# Altium footprint library 智能车主板.PcbLib: 35 footprints (part 2 of 3)
Each footprint in its own frame and in the unit in brackets; x right, y up, seen from the top. Pads: shape width x height; smd on the part's side, far side on the other; paste and mask are expansions set on the pad; w line width, h text height; cw(c..) or ccw(c..) is an arc to the next point about the centre after c.
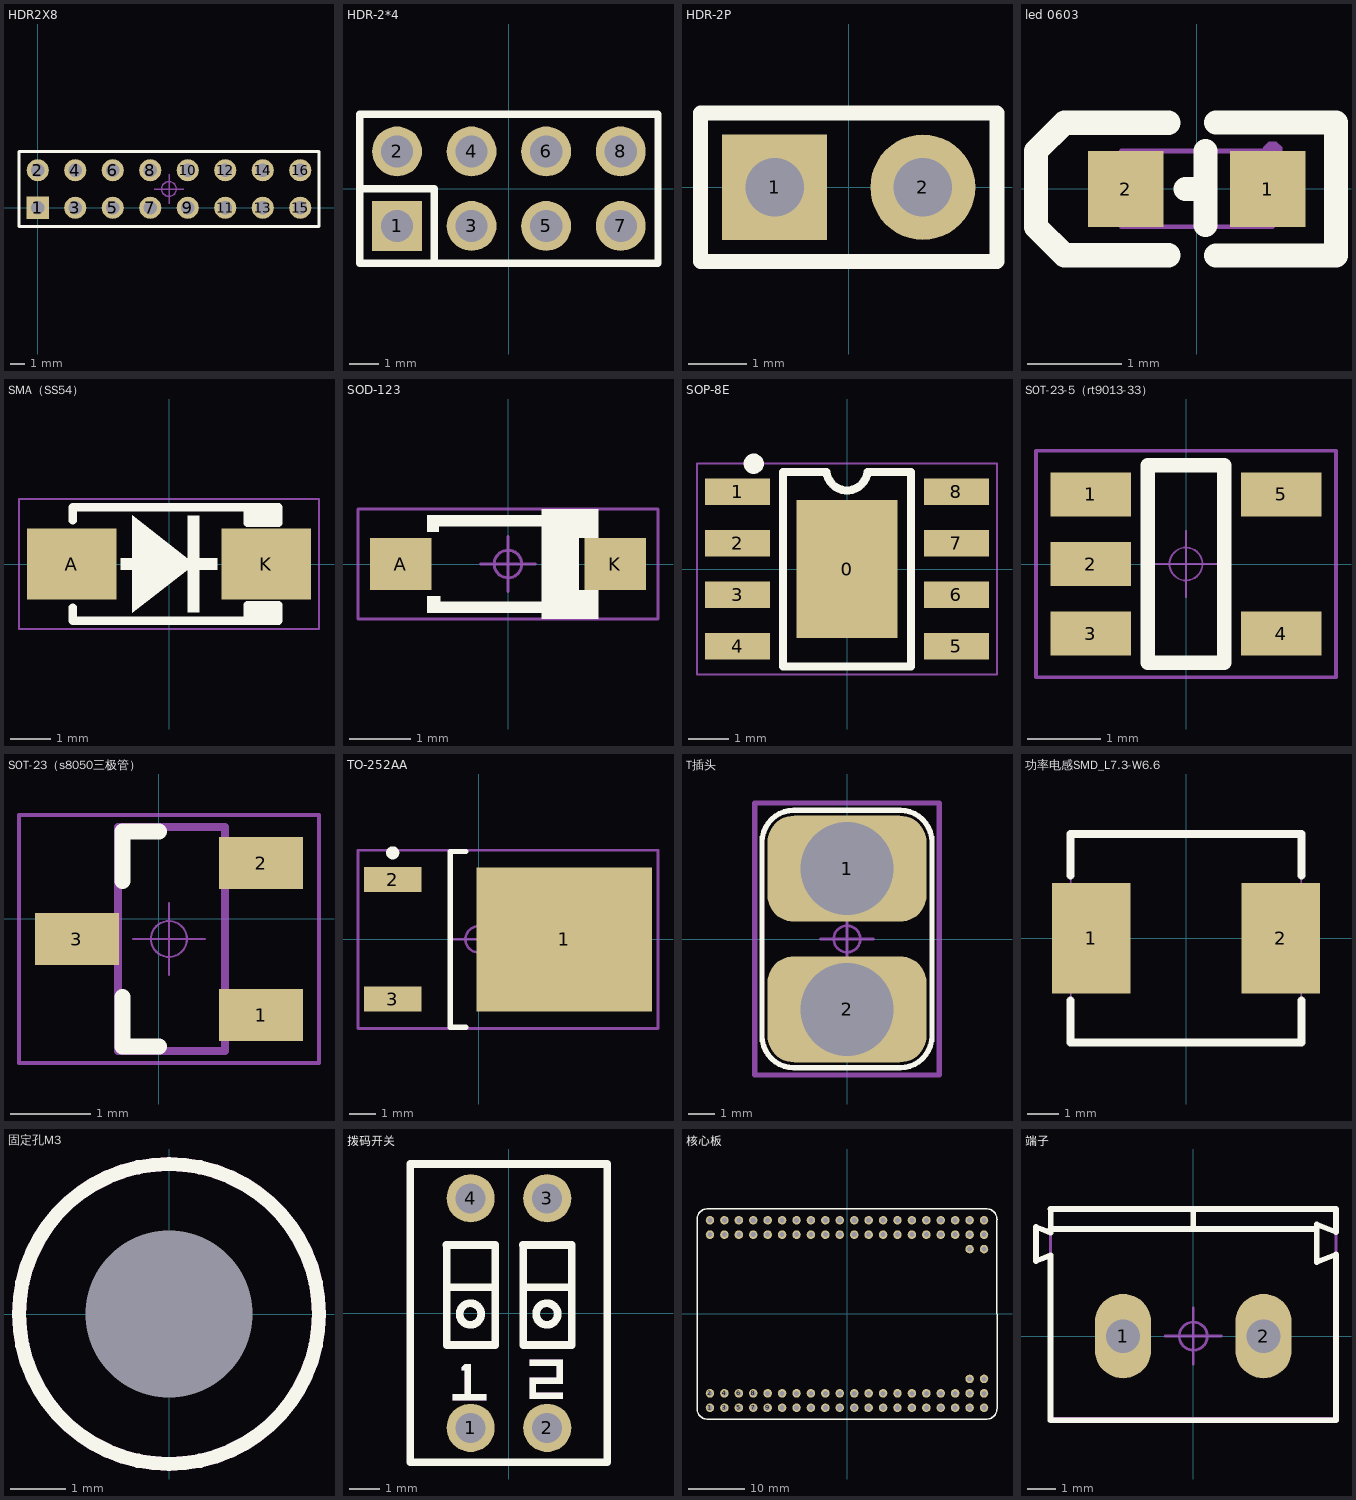
[diagram p1: the footprints below, top view; thin cyan lines are the x and y axes]

## HDR2X8 [mm]
pads (16):
  rect 1.5x1.5 hole 0.9: 1(0,0)
  round 1.5 hole 0.9: 2(0,2.54) 3(2.54,0) 4(2.54,2.54) 5(5.08,0) 6(5.08,2.54) 7(7.62,0) 8(7.62,2.54) 9(10.16,0) 10(10.16,2.54) 11(12.7,0) 12(12.7,2.54) 13(15.24,0) 14(15.24,2.54) 15(17.78,0) 16(17.78,2.54)
Top Overlay:
  lines w0.2: -1.27,-1.27 19.05,-1.27 19.05,3.81 -1.27,3.81 -1.27,-1.27
Top Component Outline:
  lines w0.1: -1.27,-1.27 -1.27,3.81 19.05,3.81 19.05,-1.27 -1.27,-1.27
Top Designator:
  text ".Designator" at 6.638,1.044 h1
Top Component Center:
  circle w0.1: c8.89,1.27 r0.5
  lines w0.1: 7.89,1.27 9.89,1.27 ; 8.89,0.27 8.89,2.27
3D body "2x8加高直插排座.step": height 16.2, standoff -3.3, extent -1.52,-1.27 19.3,3.81

## HDR-2*4 [mm]
pads (8):
  rect 1.7x1.7 hole 1.1 mask+0.051: 1(-3.81,-1.27)
  round 1.7 hole 1.1 mask+0.051: 2(-3.81,1.27) 3(-1.27,-1.27) 4(-1.27,1.27) 5(1.27,-1.27) 6(1.27,1.27) 7(3.81,-1.27) 8(3.81,1.27)
Top Overlay:
  lines w0.254: -5.08,0 -2.54,0 -2.54,-2.54 ; 5.07,2.54 -5.08,2.54 -5.08,-2.54 5.08,-2.54 5.08,2.54
Mechanical 15:
  region: -4.13,-0.95 -3.49,-0.95 -3.49,-1.59 -4.13,-1.59
  region: -4.13,1.59 -3.49,1.59 -3.49,0.95 -4.13,0.95
  region: -1.59,-0.95 -0.95,-0.95 -0.95,-1.59 -1.59,-1.59
  region: -1.59,1.59 -0.95,1.59 -0.95,0.95 -1.59,0.95
  region: 0.95,-0.95 1.59,-0.95 1.59,-1.59 0.95,-1.59
  region: 0.95,1.59 1.59,1.59 1.59,0.95 0.95,0.95
  region: 3.49,-0.95 4.13,-0.95 4.13,-1.59 3.49,-1.59
  region: 3.49,1.59 4.13,1.59 4.13,0.95 3.49,0.95
  region: -5.02,-2.5 -5.02,-2.475 -5.055,-2.44 -5.105,-2.44 -5.14,-2.475 -5.14,-2.5 -5.14,-2.525 -5.105,-2.56 -5.055,-2.56 -5.02,-2.525 -5.02,-2.5
  lines w0.051: -5.08,-2.5 5.08,-2.5 5.08,2.5 -5.08,2.5 -5.08,-2.5

## HDR-2P [mm]
pads (2):
  rect 1.8x1.8 hole 1 paste+0 mask+0.051: 1(-1.27,0)
  round 1.8 hole 1 paste+0 mask+0.051: 2(1.27,0)
Top Overlay:
  lines w0.254: -2.54,-1.27 -2.54,1.27 2.54,1.27 2.54,-1.27 -2.54,-1.27
Mechanical 15:
  region: 0.95,0.32 1.59,0.32 1.59,-0.32 0.95,-0.32
  region: -1.59,0.32 -0.95,0.32 -0.95,-0.32 -1.59,-0.32
  region: -2.48,-1.27 -2.48,-1.245 -2.515,-1.21 -2.565,-1.21 -2.6,-1.245 -2.6,-1.27 -2.6,-1.295 -2.565,-1.33 -2.515,-1.33 -2.48,-1.295 -2.48,-1.27
  lines w0.051: -2.54,-1.27 2.54,-1.27 2.54,1.27 -2.54,1.27 -2.54,-1.27

## led 0603 [mm]
pads (2):
  rect 0.8x0.8 smd mask+0.051: 1(0.75,0) 2(-0.75,0)
Top Overlay:
  lines w0.254: -0.3,-0.7 -1.4,-0.7 -1.7,-0.4 -1.7,0.4 -1.4,0.7 -0.3,0.7 ; -0.119,0 0.09,0.002 ; 0.09,-0.38 0.09,0.4 ; 0.201,-0.701 1.471,-0.701 1.471,0.701 0.201,0.701
Mechanical 6:
  region: 0.692,-0.264 0.692,0.345 0.845,0.345 0.845,-0.266 0.839,-0.266
  region: 0.462,0.132 1.07,0.132 1.07,-0.022 0.459,-0.022 0.459,-0.015
  region: -1.026,0.144 -0.418,0.144 -0.418,-0.01 -1.029,-0.01 -1.029,-0.003
Mechanical 15:
  region: -0.8,-0.35 -0.8,0.35 -0.5,0.35 -0.5,-0.35
  region: 0.8,0.35 0.8,-0.35 0.5,-0.35 0.5,0.35
  region: 0.9,0.4 0.9,0.441 0.841,0.5 0.759,0.5 0.7,0.441 0.7,0.4 0.7,0.359 0.759,0.3 0.841,0.3 0.9,0.359 0.9,0.4
  lines w0.051: -0.8,-0.4 -0.8,0.4 0.8,0.4 0.8,-0.4 -0.8,-0.4

## SMA（SS54） [mm]
pads (2):
  rect 2.2x1.75 smd: A(-2.4,0) K(2.4,0)
Top Overlay:
  rectangle: -1.2,-0.149 1.2,0.151
  rectangle: 0.451,-1.2 0.751,1.2
  rectangle: 1.941,0.914 2.7,1.395
  rectangle: 1.941,-1.4 2.7,-0.914
  region: -0.902,1.2 -0.902,-1.2 0.635,0
  lines w0.2: -2.375,-1.075 -2.375,-1.4 2.7,-1.4 2.7,-1.016 ; -2.375,1.075 -2.375,1.4 2.7,1.4 2.7,1.016 ; 1.941,-1.395 1.941,-1.016 ; 1.941,1.016 1.941,1.395
Top Component Outline:
  lines w0.05: -3.7,-1.6 -3.7,1.6 3.7,1.6 3.7,-1.6 -3.7,-1.6
Top Designator:
  text ".Designator" at -2.252,-0.226 h1
Top Component Center:
  circle w0.05: c0,0 r0.225
  lines w0.05: -0.45,0 0.45,0 ; 0,-0.45 0,0.45
3D body "SMA(DO-214AC).STEP": height 2.3, standoff 0, extent -2.905,-1.46 2.905,1.46

## SOD-123 [mm]
pads (2):
  rect 1x0.85 smd: A(-1.75,0) K(1.75,0)
Top Overlay:
  region: -1.125,0.8 -1.325,0.8 -1.325,0.525 -1.125,0.525
  region: -1.1,-0.525 -1.325,-0.525 -1.325,-0.8 -1.1,-0.8
  rectangle: 1.15,-0.8 1.475,-0.425
  rectangle: 1.15,0.425 1.475,0.8
  rectangle: -1.143,-0.8 0.584,-0.612
  rectangle: 0.55,0.697 1.475,0.9
  rectangle: -1.143,0.612 0.584,0.8
  rectangle: 0.55,-0.9 1.475,-0.697
  rectangle: 0.55,-0.8 1.159,0.8
Top Component Outline:
  lines w0.05: -2.45,-0.9 2.45,-0.9 2.45,0.9 -2.45,0.9 -2.45,-0.9
Top Designator:
  text ".Designator" at -2.252,-0.226 h1
Top Component Center:
  circle w0.05: c0,0 r0.225
  lines w0.05: -0.45,0 0.45,0 ; 0,-0.45 0,0.45
3D body "SOD-123.STEP": height 1.2, standoff 0, extent -1.85,-0.8 1.85,0.8

## SOP-8E [mm]
pads (9):
  rect 2.5x3.4 smd: 0(0,0)
  rect 1.6x0.65 smd: 1(-2.7,1.905) 2(-2.7,0.635) 3(-2.7,-0.635) 4(-2.7,-1.905) 5(2.7,-1.905) 6(2.7,-0.635) 7(2.7,0.635) 8(2.7,1.905)
Top Overlay:
  circle w0.25: c-2.3,2.6 r0.125
  lines w0.2: -0.508,2.4 -1.575,2.4 -1.575,-2.4 1.575,-2.4 1.575,2.4 0.508,2.4 ; -0.505,2.399 ccw(c0,2.45) 0.505,2.399
Top Component Outline:
  lines w0.05: -3.7,-2.6 -3.7,2.6 3.7,2.6 3.7,-2.6 -3.7,-2.6
Top Designator:
  text ".Designator" at -2.252,-0.114 h1
Top Component Center:
  circle w0.05: c0,0 r0.35
  lines w0.05: -0.5,0 0.5,0 ; 0,-0.5 0,0.5
3D body "SOIC8.STEP": height 1.75, standoff 0, extent -3.105,-2.45 3.105,2.45

## SOT-23-5（rt9013-33） [mm]
pads (5):
  rect 1.1x0.6 smd: 1(-1.3,0.95) 2(-1.3,0) 3(-1.3,-0.95) 4(1.3,-0.95) 5(1.3,0.95)
Top Overlay:
  lines w0.2: -0.525,-1.35 -0.525,1.35 0.525,1.35 0.525,-1.35 -0.525,-1.35
Top Component Outline:
  lines w0.05: -2.05,-1.55 -2.05,1.55 2.05,1.55 2.05,-1.55 -2.05,-1.55
Top Designator:
  text ".Designator" at -2.252,-0.226 h1
Top Component Center:
  circle w0.025: c0,0 r0.225
  lines w0.025: -0.45,0 0.45,0 ; 0,-0.45 0,0.45
3D body "SOT-5.stp": height 1.08, standoff -0.01, extent -1.423,-1.461 1.422,1.46

## SOT-23（s8050三极管） [mm]
pads (3):
  rect 1.05x0.65 smd: 1(1.277,-1.204) 2(1.277,0.696) 3(-1.023,-0.254)
Top Overlay:
  lines w0.2: -0.457,-0.979 -0.457,-1.6 0,-1.6 ; -0.457,0.471 -0.457,1.092 0,1.092
Top Component Outline:
  lines w0.05: -1.748,-1.804 2.002,-1.804 2.002,1.296 -1.748,1.296 -1.748,-1.804
Top Designator:
  text ".Designator" at 2.379,-0.028 h1
Mechanical 13:
  lines w0.1: -0.508,-1.651 0.827,-1.651 0.827,1.143 -0.508,1.143 -0.508,-1.651
Top Component Center:
  circle w0.025: c0.127,-0.254 r0.225
  lines w0.025: -0.323,-0.254 0.577,-0.254 ; 0.127,-0.704 0.127,0.196
3D body "SOT-23-3P.STEP": height 1.2, standoff 0, extent -1.273,-1.704 1.527,1.196

## TO-252AA [mm]
pads (3):
  rect 6.7x5.5 smd: 1(3.275,0)
  rect 2.2x0.95 smd: 2(-3.275,2.28) 3(-3.275,-2.28)
Top Overlay:
  circle w0.25: c-3.275,3.305 r0.125
  lines w0.2: -0.475,-3.35 -1.075,-3.35 -1.075,3.35 -0.475,3.35
Top Component Outline:
  lines w0.1: -4.6,-3.4 -4.6,3.4 6.85,3.4 6.85,-3.4 -4.6,-3.4
Top Designator:
  text ".Designator" at -1.127,-0.174 h1
Top Component Center:
  circle w0.1: c0,0 r0.5
  lines w0.1: -1,0 1,0 ; 0,-1 0,1
3D body "User Library-DPAK-1.STEP": height 2.39, standoff -0.02, extent -3.775,-3.27 6.163,3.27

## T插头 [mm]
pads (2):
  rrect50% 6x4 hole 3.5: 1(0,2.65) 2(0,-2.65)
Top Overlay:
  lines w0.203: -3.2,-3.65 ccw(c-2,-3.65) -2,-4.85 2,-4.85 ccw(c2,-3.65) 3.2,-3.65 3.2,3.65 ccw(c2,3.65) 2,4.85 -2,4.85 ccw(c-2,3.65) -3.2,3.65 -3.2,-3.65
Top Component Outline:
  lines w0.2: -3.475,-5.125 3.475,-5.125 3.475,5.125 -3.475,5.125 -3.475,-5.125
Top Designator:
  text ".Designator" at -2.252,-0.226 h1
Top Component Center:
  circle w0.1: c0,0 r0.5
  lines w0.1: -1,0 1,0 ; 0,-1 0,1

## 功率电感SMD_L7.3-W6.6 [mm]
pads (2):
  rect 2.5x3.5 smd mask+0.051: 1(-3,0) 2(3,0)
Top Overlay:
  lines w0.254: -3.65,-1.981 -3.65,-3.3 3.65,-3.3 3.65,-1.981 ; -3.65,1.981 -3.65,3.3 3.65,3.3 3.65,1.981
Mechanical 15:
  region: 2.15,1.5 3.65,1.5 3.65,-1.5 2.15,-1.5
  region: -3.65,1.5 -2.15,1.5 -2.15,-1.5 -3.65,-1.5
  region: -3.59,-3.3 -3.59,-3.275 -3.625,-3.24 -3.675,-3.24 -3.71,-3.275 -3.71,-3.3 -3.71,-3.325 -3.675,-3.36 -3.625,-3.36 -3.59,-3.325 -3.59,-3.3
  lines w0.051: -3.65,-3.3 3.65,-3.3 3.65,3.3 -3.65,3.3 -3.65,-3.3

## 固定孔M3 [mm]
pads (1):
  rect 0x0 hole 3 unplated: 1(0,0)
Top Overlay:
  circle w0.254: c0,0 r2.7
Bottom Overlay:
  circle w0.254: c0,0 r2.7
Keep-Out Layer:
  circle w0.254: c0,0 r2.7

## 拨码开关 [mm]
pads (4):
  round 1.6 hole 1 mask+0.05: 1(-1.27,-3.81) 2(1.27,-3.81) 3(1.27,3.81) 4(-1.27,3.81)
Top Overlay:
  circle w0.254: c1.262,-0.031 r0.358
  circle w0.254: c-1.278,-0.031 r0.358
  region: 0.69,-1.55 1.79,-1.55 1.79,-2.35 0.89,-2.35 0.89,-2.65 1.79,-2.65 1.79,-2.85 0.69,-2.85 0.69,-2.15 1.59,-2.15 1.59,-1.75 0.69,-1.75
  region: -0.76,-2.7 -0.76,-2.9 -1.86,-2.9 -1.86,-2.7 -1.46,-2.7 -1.46,-1.9 -1.56,-1.9 -1.56,-1.8 -1.46,-1.7 -1.26,-1.7 -1.26,-2.7 -0.76,-2.7
  lines w0.254: -2.078,2.258 -0.448,2.258 -0.448,-1.061 -2.068,-1.061 -2.068,2.249 ; -2.068,0.853 -0.448,0.853 ; 0.462,2.259 2.092,2.259 2.092,-1.061 0.472,-1.061 0.472,2.249 ; 0.472,0.853 2.092,0.853 ; -3.27,-4.95 3.27,-4.95 3.27,4.95 -3.27,4.95 -3.27,-4.95
Mechanical 6:
  region: 0.69,-1.55 1.79,-1.55 1.79,-2.35 0.89,-2.35 0.89,-2.65 1.79,-2.65 1.79,-2.85 0.69,-2.85 0.69,-2.15 1.59,-2.15 1.59,-1.75 0.69,-1.75
  region: -0.76,-2.7 -0.76,-2.9 -1.86,-2.9 -1.86,-2.7 -1.46,-2.7 -1.46,-1.9 -1.56,-1.9 -1.56,-1.8 -1.46,-1.7 -1.26,-1.7 -1.26,-2.7 -0.76,-2.7
Mechanical 15:
  region: -3.21,-4.95 -3.21,-4.925 -3.245,-4.89 -3.295,-4.89 -3.33,-4.925 -3.33,-4.95 -3.33,-4.975 -3.295,-5.01 -3.245,-5.01 -3.21,-4.975 -3.21,-4.95
  region: -1.57,-3.735 -0.97,-3.735 -0.97,-3.885 -1.57,-3.885
  region: 0.97,-3.735 1.57,-3.735 1.57,-3.885 0.97,-3.885
  region: 0.97,3.885 1.57,3.885 1.57,3.735 0.97,3.735
  region: -1.57,3.885 -0.97,3.885 -0.97,3.735 -1.57,3.735
  lines w0.051: -3.27,-4.95 3.27,-4.95 3.27,4.95 -3.27,4.95 -3.27,-4.95

## 核心板 [mm] "i.MX RT1064核心板整体封装，可直接使用"
pads (84):
  round 1.5 hole 0.9: 1(-24.13,-16.51) 2(-24.13,-13.97) 3(-21.59,-16.51) 4(-21.59,-13.97) 5(-19.05,-16.51) 6(-19.05,-13.97) 7(-16.51,-16.51) 8(-16.51,-13.97) 9(-13.97,-16.51) 10(-13.97,-13.97) 11(-11.43,-16.51) 12(-11.43,-13.97) 13(-8.89,-16.51) 14(-8.89,-13.97) 15(-6.35,-16.51) 16(-6.35,-13.97) 17(-3.81,-16.51) 18(-3.81,-13.97) 19(-1.27,-16.51) 20(-1.27,-13.97) 21(1.27,-16.51) 22(1.27,-13.97) 23(3.81,-16.51) 24(3.81,-13.97) 25(6.35,-16.51) 26(6.35,-13.97) 27(8.89,-16.51) 28(8.89,-13.97) 29(11.43,-16.51) 30(11.43,-13.97) 31(13.97,-16.51) 32(13.97,-13.97) 33(16.51,-16.51) 34(16.51,-13.97) 35(19.05,-16.51) 36(19.05,-13.97) 37(21.59,-16.51) 38(21.59,-13.97) 39(24.13,-16.51) 40(24.13,-13.97) 41(21.59,-11.43) 42(24.13,-11.43) 43(24.13,11.43) 44(21.59,11.43) 45(24.13,13.97) 46(24.13,16.51) 47(21.59,13.97) 48(21.59,16.51) 49(19.05,13.97) 50(19.05,16.51) 51(16.51,13.97) 52(16.51,16.51) 53(13.97,13.97) 54(13.97,16.51) 55(11.43,13.97) 56(11.43,16.51) 57(8.89,13.97) 58(8.89,16.51) 59(6.35,13.97) 60(6.35,16.51) 61(3.81,13.97) 62(3.81,16.51) 63(1.27,13.97) 64(1.27,16.51) 65(-1.27,13.97) 66(-1.27,16.51) 67(-3.81,13.97) 68(-3.81,16.51) 69(-6.35,13.97) 70(-6.35,16.51) 71(-8.89,13.97) 72(-8.89,16.51) 73(-11.43,13.97) 74(-11.43,16.51) 75(-13.97,13.97) 76(-13.97,16.51) 77(-16.51,13.97) 78(-16.51,16.51) 79(-19.05,13.97) 80(-19.05,16.51) 81(-21.59,13.97) 82(-21.59,16.51) 83(-24.13,13.97) 84(-24.13,16.51)
Top Overlay:
  lines w0.254: -26.416,-16.637 ccw(c-24.511,-16.637) -24.511,-18.542 24.511,-18.542 ccw(c24.511,-16.637) 26.416,-16.637 26.416,16.637 ccw(c24.511,16.637) 24.511,18.542 -24.511,18.542 ccw(c-24.511,16.637) -26.416,16.637 -26.416,-16.637

## 端子 [mm]
pads (2):
  oval 2x3 hole 1.2: 1(-2.5,0) 2(2.5,0)
Top Overlay:
  lines w0.2: -5.08,2.879 -5.6,2.676 -5.6,3.886 -5.08,3.683 -5.08,4.525 ; 5.08,-2.997 5.08,2.904 4.394,2.636 4.394,3.976 5.08,3.708 5.08,4.525
  lines w0.203: -5.08,2.879 -5.08,-2.997 5.08,-2.997 ; -5.08,3.81 4.365,3.81 ; -5.08,4.525 5.08,4.525 ; 0,3.81 0,4.445
Top Component Outline:
  lines w0.1: -5.08,-2.921 5.08,-2.921 5.08,4.572 -5.08,4.572 -5.08,-2.921
Top Designator:
  text ".Designator" at -2.511,0.538 h1
Top Component Center:
  circle w0.1: c0,0 r0.5
  lines w0.1: -1,0 1,0 ; 0,-1 0,1
3D body "Terminal-Screw-3A-2way.step": height 10, standoff -3, extent -5.6,-3 5,4.6